# EAGLE library part 74HC02 (library Logic)
The 74HC02; 74HCT02 are high-speed Si-gate CMOS devices that comply with JEDEC standard no. 7A. They are pin compatible with Low-power Schottky TTL (LSTTL). The 74HC02; 74HCT02 provides a quad 2-input NOR function.
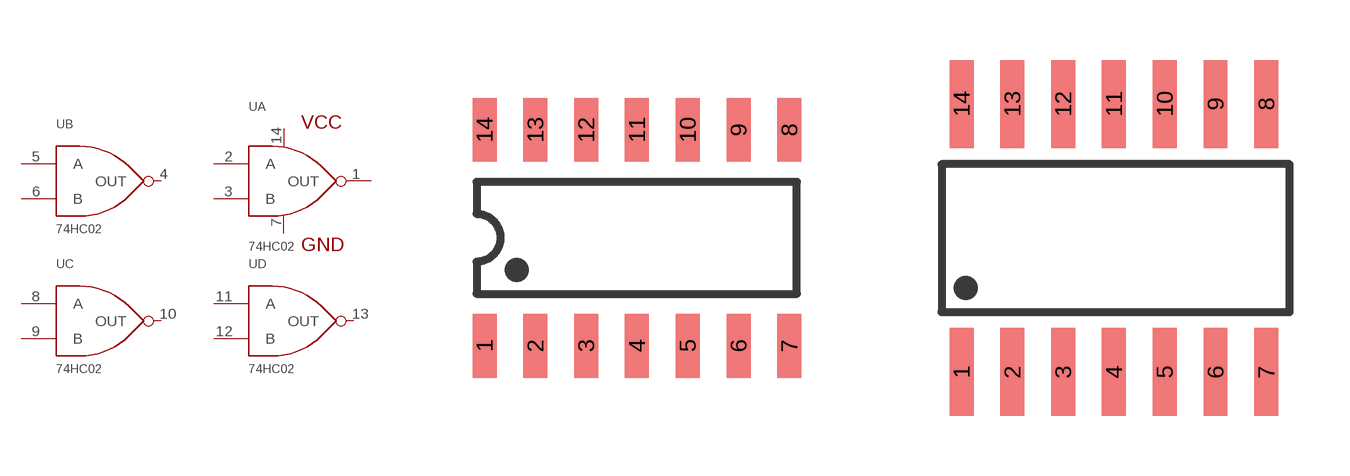
[diagram p3: symbol with the pads of SOIC14; footprints SOIC14, SO-14]

Designator prefix U; gates B=NOR A=NOR_PWR C=NOR D=NOR

## 74HC02_SOIC-14  [SOIC14]
1  A:OUT
2  A:A
3  A:B
4  B:OUT
5  B:A
6  B:B
7  A:GND  pwr
8  C:A
9  C:B
10  C:OUT
11  D:A
12  D:B
13  D:OUT
14  A:VCC  pwr

## 74HC02_SO-14  [SO-14]
Pads as for SOIC14

## Footprint SOIC14 (pad centres in mm)
smd 0.6 x 1.6: 1 0,0; 2 1.27,0; 3 2.54,0; 4 3.81,0; 5 5.08,0; 6 6.35,0; 7 7.62,0; 8 7.62,5.4; 9 6.35,5.4; 10 5.08,5.4; 11 3.81,5.4; 12 2.54,5.4; 13 1.27,5.4; 14 0,5.4

## Footprint SO-14 (pad centres in mm)
smd 0.6 x 2.2: 1 0,0; 2 1.27,0; 3 2.54,0; 4 3.81,0; 5 5.08,0; 6 6.35,0; 7 7.62,0; 8 7.62,6.71; 9 6.35,6.71; 10 5.08,6.71; 11 3.81,6.71; 12 2.54,6.71; 13 1.27,6.71; 14 0,6.71